# EAGLE library part A_16-LC-TT (library ICS_A 16-LC-TT)
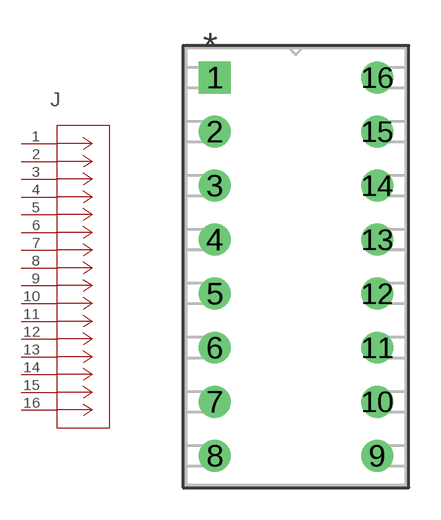
[diagram p0: symbol with the pads of CONN_A_16-LC-TT_ASM; footprint CONN_A_16-LC-TT_ASM]

Designator prefix J

## A_16-LC-TTCONN_A_16-LC-TT_ASM (Copyright: Copyright (C) 2024 Ultra Librarian. All rights reserved.; Digi-Key_Part_Number_1: AE9992-ND; Manufacturer_Part_Number: A 16-LC-TT; Mfr_Name: Assmann)  [CONN_A_16-LC-TT_ASM]
1  1  pas
2  2  pas
3  3  pas
4  4  pas
5  5  pas
6  6  pas
7  7  pas
8  8  pas
9  9  pas
10  10  pas
11  11  pas
12  12  pas
13  13  pas
14  14  pas
15  15  pas
16  16  pas

## Footprint CONN_A_16-LC-TT_ASM (pad centres in mm)
drill 0.991 pad 1.499 square: 1 0,0
drill 0.991 pad 1.499 round: 2 0,-2.54; 3 0,-5.08; 4 0,-7.62; 5 0,-10.16; 6 0,-12.7; 7 0,-15.24; 8 0,-17.78; 9 7.62,-17.78; 10 7.62,-15.24; 11 7.62,-12.7; 12 7.62,-10.16; 13 7.62,-7.62; 14 7.62,-5.08; 15 7.62,-2.54; 16 7.62,0